# Altium footprint library PCB - LEADLESS - SON - TI VSON-10 DLA.PcbLib: 1 footprints
Each footprint in its own frame and in the unit in brackets; x right, y up, seen from the top. Pads: shape width x height; smd on the part's side, far side on the other; paste and mask are expansions set on the pad; w line width, h text height; cw(c..) or ccw(c..) is an arc to the next point about the centre after c.
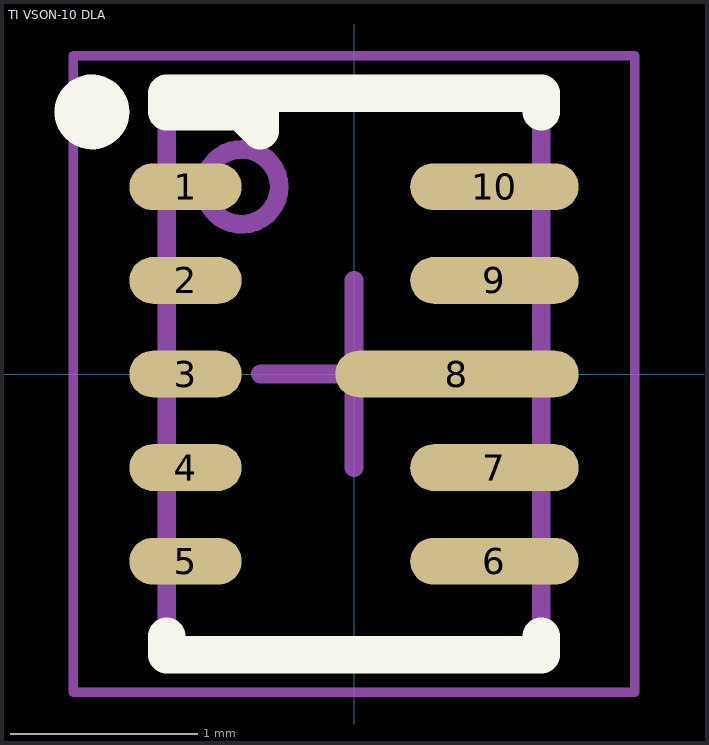
[diagram p0: the footprint, top view; thin cyan lines are the x and y axes]

## TI VSON-10 DLA [mm] "Buck-Boost Switching Regulator IC Positive Adjustable 1.8V 1 Output 2A, 0.5mm Pitch, 3.00x2.00 mm Body, VFDFN-10 Package"
height 1
pads (10):
  oval 0.6x0.25 smd: 1(-0.9,1) 2(-0.9,0.5) 3(-0.9,0) 4(-0.9,-0.5) 5(-0.9,-1)
  oval 0.9x0.25 smd: 6(0.75,-1) 7(0.75,-0.5) 9(0.75,0.5) 10(0.75,1)
  oval 1.3x0.25 smd: 8(0.55,0)
Top Overlay:
  circle w0.2: c-1.4,1.4 r0.1
  lines w0.2: -1,-1.4 -1,-1.5 ; -0.5,1.4 -0.5,1.3 -0.6,1.4 -1,1.4 -1,1.5 1,1.5 1,1.4 ; 1,-1.4 1,-1.5 -1,-1.5 ; -1,-1.5 -1,-1.5
Mechanical 13:
  circle w0.1: c-0.6,1 r0.2
  lines w0.1: -1,-1.5 -1,1.5 1,1.5 1,-1.5 -1,-1.5
Mechanical 15 (Mech15):
  lines w0.05: -1.5,-1.7 1.5,-1.7 1.5,1.7 -1.5,1.7 -1.5,-1.7
  lines w0.1: -0.5,0 0,0 ; 0,-0.5 0,0 ; 0,0.5 0,0 ; 0.5,0 0,0
3D body "TI - VFDFN-10 v2.step": height 1, standoff 0, extent -1,-1.5 1,1.5